# EAGLE library part STM32-PROG- (library con-headers-jp)
ST-LINK/V2 in-circuit debugger/programmer for STM8 and STM32 UM1075 User Manual <http://www.st.com/content/ccc/resource/technical/document/user_manual/65/e0/44/72/9e/34/41/8d/DM00026748.pdf/files/DM00026748.pdf/jcr:content/translations/en.DM00026748.pdf>
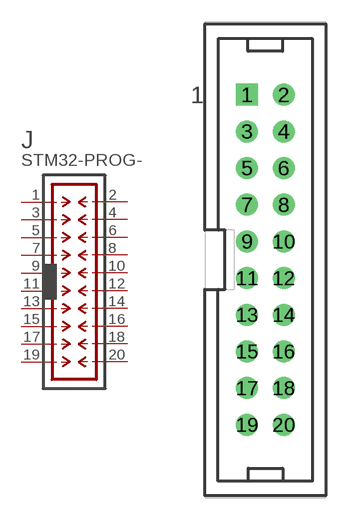
[diagram p79: symbol with the pads of 30320-6002HB; footprint 30320-6002HB]

Designator prefix J

## STM32-PROG-100-KEYED (DATASHEET: https://goo.gl/BmPyaX; FEAT: Shrouded, Keyed; MANF: 3M; MFPN: 30320-6002HB; PARTNO: 29-100794-00; PITCH: 0.1")  [30320-6002HB]
1  1  pas
2  2  pas
3  3  pas
4  4  pas
5  5  pas
6  6  pas
7  7  pas
8  8  pas
9  9  pas
10  10  pas
11  11  pas
12  12  pas
13  13  pas
14  14  pas
15  15  pas
16  16  pas
17  17  pas
18  18  pas
19  19  pas
20  20  pas

## Footprint 30320-6002HB (pad centres in mm)
CONN HEADER 20POS DL STR GOLD 3M™ Low Profile Header, 0.1” × 0.1”, 20 Pos Straight, Shrouded, Keyed Slot 303 Series Datasheet <http://multimedia.3m.com/mws/media/22504O/3mtm-100-in-loprof-hdr-100x-100strt-ra-4-wall-ts0818.pdf>
drill 1.016 square: 1 -1.27,0
drill 1.016: 2 1.27,0; 3 -1.27,-2.54; 4 1.27,-2.54; 5 -1.27,-5.08; 6 1.27,-5.08; 7 -1.27,-7.62; 8 1.27,-7.62; 9 -1.27,-10.16; 10 1.27,-10.16; 11 -1.27,-12.7; 12 1.27,-12.7; 13 -1.27,-15.24; 14 1.27,-15.24; 15 -1.27,-17.78; 16 1.27,-17.78; 17 -1.27,-20.32; 18 1.27,-20.32; 19 -1.27,-22.86; 20 1.27,-22.86